# Altium schematic symbol library L298N.SchLib: 1 symbol
Pins are listed as number, name and electrical type; pins without a type are passive.

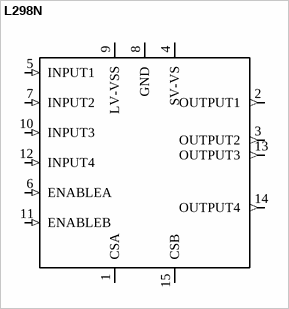
[diagram p0: symbol L298N]

## L298N
designator U?  (value not drawn)
Value: *
footprint DRIVER_L298N
pins: 1 CSA (io), 2 OUTPUT1 (out), 3 OUTPUT2 (out), 4 SV-VS (power), 5 INPUT1 (in), 6 ENABLEA (in), 7 INPUT2 (in), 8 GND, 9 LV-VSS (power), 10 INPUT3 (in), 11 ENABLEB (in), 12 INPUT4 (in), 13 OUTPUT3 (out), 14 OUTPUT4 (out), 15 CSB (io)